# EAGLE library part 6N138 (library dpx-SMT-vreg-trans)
DC-IN 1-CH Darlington With Base DC-OUT 8-Pin DIP Tube Source: Datasheet <https://componentsearchengine.com/Datasheets/2/6N138.pdf>
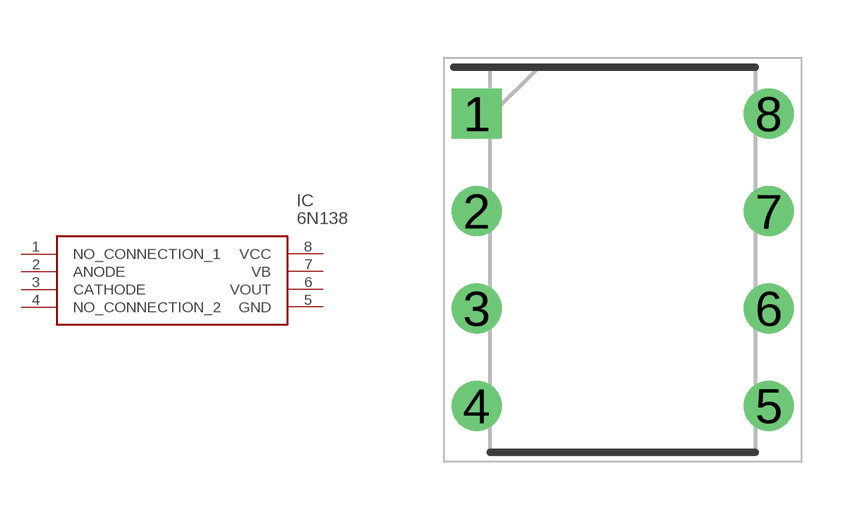
[diagram p0: symbol with the pads of DIP762W60P254L976H480Q8N; footprint DIP762W60P254L976H480Q8N]

Designator prefix IC

## 6N138 (DESCRIPTION: DC-IN 1-CH Darlington With Base DC-OUT 8-Pin DIP Tube; HEIGHT: 4.8mm; MANUFACTURER_NAME: Everlight; MANUFACTURER_PART_NUMBER: 6N138; MOUSER_PART_NUMBER: 638-6N138; MOUSER_PRICE-STOCK: https://www.mouser.co.uk/ProductDetail/Everlight/6N138?qs=8PzhAHr7IdMV0oSNC8g4Zg%3D%3D)  [DIP762W60P254L976H480Q8N]
1  NO_CONNECTION_1
2  ANODE
3  CATHODE
4  NO_CONNECTION_2
5  GND
6  VOUT
7  VB
8  VCC

## Footprint DIP762W60P254L976H480Q8N (pad centres in mm)
8 PIN DIP
drill 0.8 pad 1.2 square: 1 -3.81,3.81
drill 0.8 pad 1.2: 2 -3.81,1.27; 3 -3.81,-1.27; 4 -3.81,-3.81; 5 3.81,-3.81; 6 3.81,-1.27; 7 3.81,1.27; 8 3.81,3.81